# Altium integrated library Altium_SMST (rev19b).IntLib: 106 symbols (part 1 of 2)
Pins are listed as number, name and electrical type; pins without a type are passive.

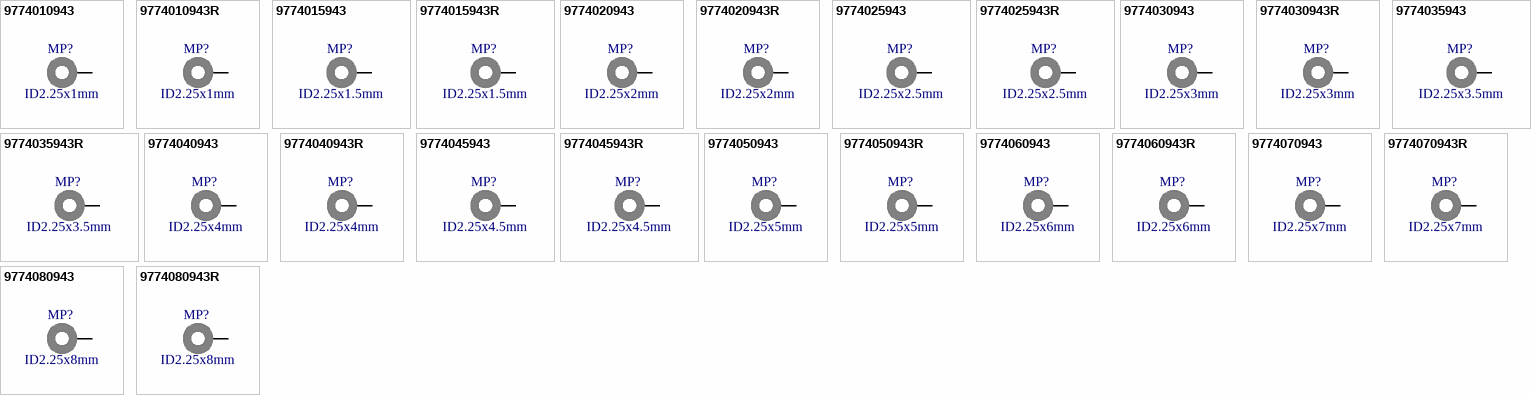
[diagram p0: symbols 9774010943 to 9774080943R]

## 9774010943
designator MP?, comment ID2.25x1mm
WA-SMST SMT Steel Spacer non stop, OD4.35mm, ID2.25x1mm; Part Number: 9774010943; Inner Diameter: 2.25mm; Outer Diameter: 4.35mm; Surface: Tin; ComponentLink1Description: Manufacturer; ComponentLink1URL: http://www.we-online.de; ComponentLink2Description: Datasheet; ComponentLink2URL: https://katalog.we-online.com/em/datasheet/9774010943.pdf; Operating Temperature: -55 to +150degC; Published Date: September 2019; Material: Steel; Length: 1mm; Packaging: Bulk; Publisher: Wurth Elektronik; Mounting Technology: SMT
footprint 9774010943
pins: 1

## 9774010943R
designator MP?, comment ID2.25x1mm
WA-SMST SMT Steel Spacer non stop, OD4.35mm, ID2.25x1mm; Part Number: 9774010943R; Inner Diameter: 2.25mm; Outer Diameter: 4.35mm; Surface: Tin; ComponentLink1Description: Manufacturer; ComponentLink1URL: http://www.we-online.de; ComponentLink2Description: Datasheet; ComponentLink2URL: https://katalog.we-online.com/em/datasheet/9774010943R.pdf; Operating Temperature: -55 to +150degC; Published Date: September 2019; Material: Steel; Length: 1mm; Packaging: Tape and Reel; Publisher: Wurth Elektronik; Mounting Technology: SMT
footprint 9774010943
pins: 1

## 9774015943
designator MP?, comment ID2.25x1.5mm
WA-SMST SMT Steel Spacer non stop, OD4.35mm, ID2.25x1.5mm; Part Number: 9774015943; Inner Diameter: 2.25mm; Outer Diameter: 4.35mm; Surface: Tin; ComponentLink1Description: Manufacturer; ComponentLink1URL: http://www.we-online.de; ComponentLink2Description: Datasheet; ComponentLink2URL: https://katalog.we-online.com/em/datasheet/9774015943.pdf; Operating Temperature: -55 to +150degC; Published Date: September 2019; Material: Steel; Length: 1.5mm; Packaging: Bulk; Publisher: Wurth Elektronik; Mounting Technology: SMT
footprint 9774015943
pins: 1

## 9774015943R
designator MP?, comment ID2.25x1.5mm
WA-SMST SMT Steel Spacer non stop, OD4.35mm, ID2.25x1.5mm; Part Number: 9774015943R; Inner Diameter: 2.25mm; Outer Diameter: 4.35mm; Surface: Tin; ComponentLink1Description: Manufacturer; ComponentLink1URL: http://www.we-online.de; ComponentLink2Description: Datasheet; ComponentLink2URL: https://katalog.we-online.com/em/datasheet/9774015943R.pdf; Operating Temperature: -55 to +150degC; Published Date: September 2019; Material: Steel; Length: 1.5mm; Packaging: Tape and Reel; Publisher: Wurth Elektronik; Mounting Technology: SMT
footprint 9774015943
pins: 1

## 9774020943
designator MP?, comment ID2.25x2mm
WA-SMST SMT Steel Spacer non stop, OD4.35mm, ID2.25x2mm; Part Number: 9774020943; Inner Diameter: 2.25mm; Outer Diameter: 4.35mm; Surface: Tin; ComponentLink1Description: Manufacturer; ComponentLink1URL: http://www.we-online.de; ComponentLink2Description: Datasheet; ComponentLink2URL: https://katalog.we-online.com/em/datasheet/9774020943.pdf; Operating Temperature: -55 to +150degC; Published Date: September 2019; Material: Steel; Length: 2mm; Packaging: Bulk; Publisher: Wurth Elektronik; Mounting Technology: SMT
footprint 9774020943
pins: 1

## 9774020943R
designator MP?, comment ID2.25x2mm
WA-SMST SMT Steel Spacer non stop, OD4.35mm, ID2.25x2mm; Part Number: 9774020943R; Inner Diameter: 2.25mm; Outer Diameter: 4.35mm; Surface: Tin; ComponentLink1Description: Manufacturer; ComponentLink1URL: http://www.we-online.de; ComponentLink2Description: Datasheet; ComponentLink2URL: https://katalog.we-online.com/em/datasheet/9774020943R.pdf; Operating Temperature: -55 to +150degC; Published Date: September 2019; Material: Steel; Length: 2mm; Packaging: Tape and Reel; Publisher: Wurth Elektronik; Mounting Technology: SMT
footprint 9774020943
pins: 1

## 9774025943
designator MP?, comment ID2.25x2.5mm
WA-SMST SMT Steel Spacer non stop, OD4.35mm, ID2.25x2.5mm; Part Number: 9774025943; Inner Diameter: 2.25mm; Outer Diameter: 4.35mm; Surface: Tin; ComponentLink1Description: Manufacturer; ComponentLink1URL: http://www.we-online.de; ComponentLink2Description: Datasheet; ComponentLink2URL: https://katalog.we-online.com/em/datasheet/9774025943.pdf; Operating Temperature: -55 to +150degC; Published Date: September 2019; Material: Steel; Length: 2.5mm; Packaging: Bulk; Publisher: Wurth Elektronik; Mounting Technology: SMT
footprint 9774025943
pins: 1

## 9774025943R
designator MP?, comment ID2.25x2.5mm
WA-SMST SMT Steel Spacer non stop, OD4.35mm, ID2.25x2.5mm; Part Number: 9774025943R; Inner Diameter: 2.25mm; Outer Diameter: 4.35mm; Surface: Tin; ComponentLink1Description: Manufacturer; ComponentLink1URL: http://www.we-online.de; ComponentLink2Description: Datasheet; ComponentLink2URL: https://katalog.we-online.com/em/datasheet/9774025943R.pdf; Operating Temperature: -55 to +150degC; Published Date: September 2019; Material: Steel; Length: 2.5mm; Packaging: Tape and Reel; Publisher: Wurth Elektronik; Mounting Technology: SMT
footprint 9774025943
pins: 1

## 9774030943
designator MP?, comment ID2.25x3mm
WA-SMST SMT Steel Spacer non stop, OD4.35mm, ID2.25x3mm; Part Number: 9774030943; Inner Diameter: 2.25mm; Outer Diameter: 4.35mm; Surface: Tin; ComponentLink1Description: Manufacturer; ComponentLink1URL: http://www.we-online.de; ComponentLink2Description: Datasheet; ComponentLink2URL: https://katalog.we-online.com/em/datasheet/9774030943.pdf; Operating Temperature: -55 to +150degC; Published Date: September 2019; Material: Steel; Length: 3mm; Packaging: Bulk; Publisher: Wurth Elektronik; Mounting Technology: SMT
footprint 9774030943
pins: 1

## 9774030943R
designator MP?, comment ID2.25x3mm
WA-SMST SMT Steel Spacer non stop, OD4.35mm, ID2.25x3mm; Part Number: 9774030943R; Inner Diameter: 2.25mm; Outer Diameter: 4.35mm; Surface: Tin; ComponentLink1Description: Manufacturer; ComponentLink1URL: http://www.we-online.de; ComponentLink2Description: Datasheet; ComponentLink2URL: https://katalog.we-online.com/em/datasheet/9774030943R.pdf; Operating Temperature: -55 to +150degC; Published Date: September 2019; Material: Steel; Length: 3mm; Packaging: Tape and Reel; Publisher: Wurth Elektronik; Mounting Technology: SMT
footprint 9774030943
pins: 1

## 9774035943
designator MP?, comment ID2.25x3.5mm
WA-SMST SMT Steel Spacer non stop, OD4.35mm, ID2.25x3.5mm; Part Number: 9774035943; Inner Diameter: 2.25mm; Outer Diameter: 4.35mm; Surface: Tin; ComponentLink1Description: Manufacturer; ComponentLink1URL: http://www.we-online.de; ComponentLink2Description: Datasheet; ComponentLink2URL: https://katalog.we-online.com/em/datasheet/9774035943.pdf; Operating Temperature: -55 to +150degC; Published Date: September 2019; Material: Steel; Length: 3.5mm; Packaging: Bulk; Publisher: Wurth Elektronik; Mounting Technology: SMT
footprint 9774035943
pins: 1

## 9774035943R
designator MP?, comment ID2.25x3.5mm
WA-SMST SMT Steel Spacer non stop, OD4.35mm, ID2.25x3.5mm; Part Number: 9774035943R; Inner Diameter: 2.25mm; Outer Diameter: 4.35mm; Surface: Tin; ComponentLink1Description: Manufacturer; ComponentLink1URL: http://www.we-online.de; ComponentLink2Description: Datasheet; ComponentLink2URL: https://katalog.we-online.com/em/datasheet/9774035943R.pdf; Operating Temperature: -55 to +150degC; Published Date: September 2019; Material: Steel; Length: 3.5mm; Packaging: Tape and Reel; Publisher: Wurth Elektronik; Mounting Technology: SMT
footprint 9774035943
pins: 1

## 9774040943
designator MP?, comment ID2.25x4mm
WA-SMST SMT Steel Spacer non stop, OD4.35mm, ID2.25x4mm; Part Number: 9774040943; Inner Diameter: 2.25mm; Outer Diameter: 4.35mm; Surface: Tin; ComponentLink1Description: Manufacturer; ComponentLink1URL: http://www.we-online.de; ComponentLink2Description: Datasheet; ComponentLink2URL: https://katalog.we-online.com/em/datasheet/9774040943.pdf; Operating Temperature: -55 to +150degC; Published Date: September 2019; Material: Steel; Length: 4mm; Packaging: Bulk; Publisher: Wurth Elektronik; Mounting Technology: SMT
footprint 9774040943
pins: 1

## 9774040943R
designator MP?, comment ID2.25x4mm
WA-SMST SMT Steel Spacer non stop, OD4.35mm, ID2.25x4mm; Part Number: 9774040943R; Inner Diameter: 2.25mm; Outer Diameter: 4.35mm; Surface: Tin; ComponentLink1Description: Manufacturer; ComponentLink1URL: http://www.we-online.de; ComponentLink2Description: Datasheet; ComponentLink2URL: https://katalog.we-online.com/em/datasheet/9774040943R.pdf; Operating Temperature: -55 to +150degC; Published Date: September 2019; Material: Steel; Length: 4mm; Packaging: Tape and Reel; Publisher: Wurth Elektronik; Mounting Technology: SMT
footprint 9774040943
pins: 1

## 9774045943
designator MP?, comment ID2.25x4.5mm
WA-SMST SMT Steel Spacer non stop, OD4.35mm, ID2.25x4.5mm; Part Number: 9774045943; Inner Diameter: 2.25mm; Outer Diameter: 4.35mm; Surface: Tin; ComponentLink1Description: Manufacturer; ComponentLink1URL: http://www.we-online.de; ComponentLink2Description: Datasheet; ComponentLink2URL: https://katalog.we-online.com/em/datasheet/9774045943.pdf; Operating Temperature: -55 to +150degC; Published Date: September 2019; Material: Steel; Length: 4.5mm; Packaging: Bulk; Publisher: Wurth Elektronik; Mounting Technology: SMT
footprint 9774045943
pins: 1

## 9774045943R
designator MP?, comment ID2.25x4.5mm
WA-SMST SMT Steel Spacer non stop, OD4.35mm, ID2.25x4.5mm; Part Number: 9774045943R; Inner Diameter: 2.25mm; Outer Diameter: 4.35mm; Surface: Tin; ComponentLink1Description: Manufacturer; ComponentLink1URL: http://www.we-online.de; ComponentLink2Description: Datasheet; ComponentLink2URL: https://katalog.we-online.com/em/datasheet/9774045943R.pdf; Operating Temperature: -55 to +150degC; Published Date: September 2019; Material: Steel; Length: 4.5mm; Packaging: Tape and Reel; Publisher: Wurth Elektronik; Mounting Technology: SMT
footprint 9774045943
pins: 1

## 9774050943
designator MP?, comment ID2.25x5mm
WA-SMST SMT Steel Spacer non stop, OD4.35mm, ID2.25x5mm; Part Number: 9774050943; Inner Diameter: 2.25mm; Outer Diameter: 4.35mm; Surface: Tin; ComponentLink1Description: Manufacturer; ComponentLink1URL: http://www.we-online.de; ComponentLink2Description: Datasheet; ComponentLink2URL: https://katalog.we-online.com/em/datasheet/9774050943.pdf; Operating Temperature: -55 to +150degC; Published Date: September 2019; Material: Steel; Length: 5mm; Packaging: Bulk; Publisher: Wurth Elektronik; Mounting Technology: SMT
footprint 9774050943
pins: 1

## 9774050943R
designator MP?, comment ID2.25x5mm
WA-SMST SMT Steel Spacer non stop, OD4.35mm, ID2.25x5mm; Part Number: 9774050943R; Inner Diameter: 2.25mm; Outer Diameter: 4.35mm; Surface: Tin; ComponentLink1Description: Manufacturer; ComponentLink1URL: http://www.we-online.de; ComponentLink2Description: Datasheet; ComponentLink2URL: https://katalog.we-online.com/em/datasheet/9774050943R.pdf; Operating Temperature: -55 to +150degC; Published Date: September 2019; Material: Steel; Length: 5mm; Packaging: Tape and Reel; Publisher: Wurth Elektronik; Mounting Technology: SMT
footprint 9774050943
pins: 1

## 9774060943
designator MP?, comment ID2.25x6mm
WA-SMST SMT Steel Spacer non stop, OD4.35mm, ID2.25x6mm; Part Number: 9774060943; Inner Diameter: 2.25mm; Outer Diameter: 4.35mm; Surface: Tin; ComponentLink1Description: Manufacturer; ComponentLink1URL: http://www.we-online.de; ComponentLink2Description: Datasheet; ComponentLink2URL: https://katalog.we-online.com/em/datasheet/9774060943.pdf; Operating Temperature: -55 to +150degC; Published Date: September 2019; Material: Steel; Length: 6mm; Packaging: Bulk; Publisher: Wurth Elektronik; Mounting Technology: SMT
footprint 9774060943
pins: 1

## 9774060943R
designator MP?, comment ID2.25x6mm
WA-SMST SMT Steel Spacer non stop, OD4.35mm, ID2.25x6mm; Part Number: 9774060943R; Inner Diameter: 2.25mm; Outer Diameter: 4.35mm; Surface: Tin; ComponentLink1Description: Manufacturer; ComponentLink1URL: http://www.we-online.de; ComponentLink2Description: Datasheet; ComponentLink2URL: https://katalog.we-online.com/em/datasheet/9774060943R.pdf; Operating Temperature: -55 to +150degC; Published Date: September 2019; Material: Steel; Length: 6mm; Packaging: Tape and Reel; Publisher: Wurth Elektronik; Mounting Technology: SMT
footprint 9774060943
pins: 1

## 9774070943
designator MP?, comment ID2.25x7mm
WA-SMST SMT Steel Spacer non stop, OD4.35mm, ID2.25x7mm; Part Number: 9774070943; Inner Diameter: 2.25mm; Outer Diameter: 4.35mm; Surface: Tin; ComponentLink1Description: Manufacturer; ComponentLink1URL: http://www.we-online.de; ComponentLink2Description: Datasheet; ComponentLink2URL: https://katalog.we-online.com/em/datasheet/9774070943.pdf; Operating Temperature: -55 to +150degC; Published Date: September 2019; Material: Steel; Length: 7mm; Packaging: Bulk; Publisher: Wurth Elektronik; Mounting Technology: SMT
footprint 9774070943
pins: 1

## 9774070943R
designator MP?, comment ID2.25x7mm
WA-SMST SMT Steel Spacer non stop, OD4.35mm, ID2.25x7mm; Part Number: 9774070943R; Inner Diameter: 2.25mm; Outer Diameter: 4.35mm; Surface: Tin; ComponentLink1Description: Manufacturer; ComponentLink1URL: http://www.we-online.de; ComponentLink2Description: Datasheet; ComponentLink2URL: https://katalog.we-online.com/em/datasheet/9774070943R.pdf; Operating Temperature: -55 to +150degC; Published Date: September 2019; Material: Steel; Length: 7mm; Packaging: Tape and Reel; Publisher: Wurth Elektronik; Mounting Technology: SMT
footprint 9774070943
pins: 1

## 9774080943
designator MP?, comment ID2.25x8mm
WA-SMST SMT Steel Spacer non stop, OD4.35mm, ID2.25x8mm; Part Number: 9774080943; Inner Diameter: 2.25mm; Outer Diameter: 4.35mm; Surface: Tin; ComponentLink1Description: Manufacturer; ComponentLink1URL: http://www.we-online.de; ComponentLink2Description: Datasheet; ComponentLink2URL: https://katalog.we-online.com/em/datasheet/9774080943.pdf; Operating Temperature: -55 to +150degC; Published Date: September 2019; Material: Steel; Length: 8mm; Packaging: Bulk; Publisher: Wurth Elektronik; Mounting Technology: SMT
footprint 9774080943
pins: 1

## 9774080943R
designator MP?, comment ID2.25x8mm
WA-SMST SMT Steel Spacer non stop, OD4.35mm, ID2.25x8mm; Part Number: 9774080943R; Inner Diameter: 2.25mm; Outer Diameter: 4.35mm; Surface: Tin; ComponentLink1Description: Manufacturer; ComponentLink1URL: http://www.we-online.de; ComponentLink2Description: Datasheet; ComponentLink2URL: https://katalog.we-online.com/em/datasheet/9774080943R.pdf; Operating Temperature: -55 to +150degC; Published Date: September 2019; Material: Steel; Length: 8mm; Packaging: Tape and Reel; Publisher: Wurth Elektronik; Mounting Technology: SMT
footprint 9774080943
pins: 1


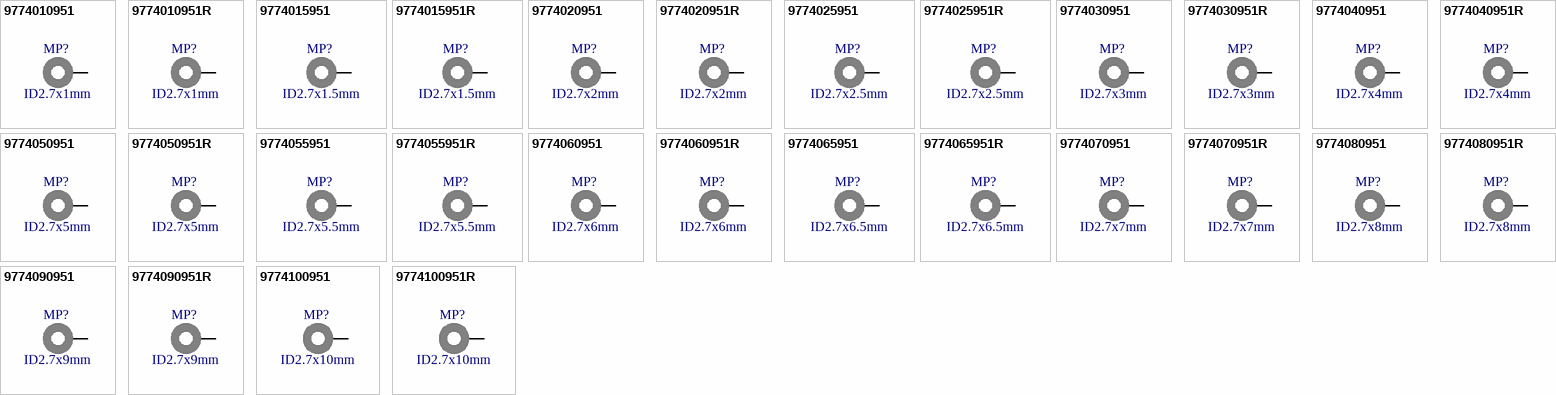
[diagram p1: symbols 9774010951 to 9774100951R]

## 9774010951
designator MP?, comment ID2.7x1mm
WA-SMST SMT Steel Spacer non stop, OD5.1mm, ID2.7x1mm; Part Number: 9774010951; Inner Diameter: 2.7mm; Outer Diameter: 5.1mm; Surface: Tin; ComponentLink1Description: Manufacturer; ComponentLink1URL: http://www.we-online.de; ComponentLink2Description: Datasheet; ComponentLink2URL: https://katalog.we-online.com/em/datasheet/9774010951.pdf; Operating Temperature: -55 to +150degC; Published Date: September 2019; Material: Steel; Length: 1mm; Packaging: Bulk; Publisher: Wurth Elektronik; Mounting Technology: SMT
footprint 9774010951
pins: 1

## 9774010951R
designator MP?, comment ID2.7x1mm
WA-SMST SMT Steel Spacer non stop, OD5.1mm, ID2.7x1mm; Part Number: 9774010951R; Inner Diameter: 2.7mm; Outer Diameter: 5.1mm; Surface: Tin; ComponentLink1Description: Manufacturer; ComponentLink1URL: http://www.we-online.de; ComponentLink2Description: Datasheet; ComponentLink2URL: https://katalog.we-online.com/em/datasheet/9774010951R.pdf; Operating Temperature: -55 to +150degC; Published Date: September 2019; Material: Steel; Length: 1mm; Packaging: Tape and Reel; Publisher: Wurth Elektronik; Mounting Technology: SMT
footprint 9774010951
pins: 1

## 9774015951
designator MP?, comment ID2.7x1.5mm
WA-SMST SMT Steel Spacer non stop, OD5.1mm, ID2.7x1.5mm; Part Number: 9774015951; Inner Diameter: 2.7mm; Outer Diameter: 5.1mm; Surface: Tin; ComponentLink1Description: Manufacturer; ComponentLink1URL: http://www.we-online.de; ComponentLink2Description: Datasheet; ComponentLink2URL: https://katalog.we-online.com/em/datasheet/9774015951.pdf; Operating Temperature: -55 to +150degC; Published Date: September 2019; Material: Steel; Length: 1.5mm; Packaging: Bulk; Publisher: Wurth Elektronik; Mounting Technology: SMT
footprint 9774015951
pins: 1

## 9774015951R
designator MP?, comment ID2.7x1.5mm
WA-SMST SMT Steel Spacer non stop, OD5.1mm, ID2.7x1.5mm; Part Number: 9774015951R; Inner Diameter: 2.7mm; Outer Diameter: 5.1mm; Surface: Tin; ComponentLink1Description: Manufacturer; ComponentLink1URL: http://www.we-online.de; ComponentLink2Description: Datasheet; ComponentLink2URL: https://katalog.we-online.com/em/datasheet/9774015951R.pdf; Operating Temperature: -55 to +150degC; Published Date: September 2019; Material: Steel; Length: 1.5mm; Packaging: Tape and Reel; Publisher: Wurth Elektronik; Mounting Technology: SMT
footprint 9774015951
pins: 1

## 9774020951
designator MP?, comment ID2.7x2mm
WA-SMST SMT Steel Spacer non stop, OD5.1mm, ID2.7x2mm; Part Number: 9774020951; Inner Diameter: 2.7mm; Outer Diameter: 5.1mm; Surface: Tin; ComponentLink1Description: Manufacturer; ComponentLink1URL: http://www.we-online.de; ComponentLink2Description: Datasheet; ComponentLink2URL: https://katalog.we-online.com/em/datasheet/9774020951.pdf; Operating Temperature: -55 to +150degC; Published Date: September 2019; Material: Steel; Length: 2mm; Packaging: Bulk; Publisher: Wurth Elektronik; Mounting Technology: SMT
footprint 9774020951
pins: 1

## 9774020951R
designator MP?, comment ID2.7x2mm
WA-SMST SMT Steel Spacer non stop, OD5.1mm, ID2.7x2mm; Part Number: 9774020951R; Inner Diameter: 2.7mm; Outer Diameter: 5.1mm; Surface: Tin; ComponentLink1Description: Manufacturer; ComponentLink1URL: http://www.we-online.de; ComponentLink2Description: Datasheet; ComponentLink2URL: https://katalog.we-online.com/em/datasheet/9774020951R.pdf; Operating Temperature: -55 to +150degC; Published Date: September 2019; Material: Steel; Length: 2mm; Packaging: Tape and Reel; Publisher: Wurth Elektronik; Mounting Technology: SMT
footprint 9774020951
pins: 1

## 9774025951
designator MP?, comment ID2.7x2.5mm
WA-SMST SMT Steel Spacer non stop, OD5.1mm, ID2.7x2.5mm; Part Number: 9774025951; Inner Diameter: 2.7mm; Outer Diameter: 5.1mm; Surface: Tin; ComponentLink1Description: Manufacturer; ComponentLink1URL: http://www.we-online.de; ComponentLink2Description: Datasheet; ComponentLink2URL: https://katalog.we-online.com/em/datasheet/9774025951.pdf; Operating Temperature: -55 to +150degC; Published Date: September 2019; Material: Steel; Length: 2.5mm; Packaging: Bulk; Publisher: Wurth Elektronik; Mounting Technology: SMT
footprint 9774025951
pins: 1

## 9774025951R
designator MP?, comment ID2.7x2.5mm
WA-SMST SMT Steel Spacer non stop, OD5.1mm, ID2.7x2.5mm; Part Number: 9774025951R; Inner Diameter: 2.7mm; Outer Diameter: 5.1mm; Surface: Tin; ComponentLink1Description: Manufacturer; ComponentLink1URL: http://www.we-online.de; ComponentLink2Description: Datasheet; ComponentLink2URL: https://katalog.we-online.com/em/datasheet/9774025951R.pdf; Operating Temperature: -55 to +150degC; Published Date: September 2019; Material: Steel; Length: 2.5mm; Packaging: Tape and Reel; Publisher: Wurth Elektronik; Mounting Technology: SMT
footprint 9774025951
pins: 1

## 9774030951
designator MP?, comment ID2.7x3mm
WA-SMST SMT Steel Spacer non stop, OD5.1mm, ID2.7x3mm; Part Number: 9774030951; Inner Diameter: 2.7mm; Outer Diameter: 5.1mm; Surface: Tin; ComponentLink1Description: Manufacturer; ComponentLink1URL: http://www.we-online.de; ComponentLink2Description: Datasheet; ComponentLink2URL: https://katalog.we-online.com/em/datasheet/9774030951.pdf; Operating Temperature: -55 to +150degC; Published Date: September 2019; Material: Steel; Length: 3mm; Packaging: Bulk; Publisher: Wurth Elektronik; Mounting Technology: SMT
footprint 9774030951
pins: 1

## 9774030951R
designator MP?, comment ID2.7x3mm
WA-SMST SMT Steel Spacer non stop, OD5.1mm, ID2.7x3mm; Part Number: 9774030951R; Inner Diameter: 2.7mm; Outer Diameter: 5.1mm; Surface: Tin; ComponentLink1Description: Manufacturer; ComponentLink1URL: http://www.we-online.de; ComponentLink2Description: Datasheet; ComponentLink2URL: https://katalog.we-online.com/em/datasheet/9774030951R.pdf; Operating Temperature: -55 to +150degC; Published Date: September 2019; Material: Steel; Length: 3mm; Packaging: Tape and Reel; Publisher: Wurth Elektronik; Mounting Technology: SMT
footprint 9774030951
pins: 1

## 9774040951
designator MP?, comment ID2.7x4mm
WA-SMST SMT Steel Spacer non stop, OD5.1mm, ID2.7x4mm; Part Number: 9774040951; Inner Diameter: 2.7mm; Outer Diameter: 5.1mm; Surface: Tin; ComponentLink1Description: Manufacturer; ComponentLink1URL: http://www.we-online.de; ComponentLink2Description: Datasheet; ComponentLink2URL: https://katalog.we-online.com/em/datasheet/9774040951.pdf; Operating Temperature: -55 to +150degC; Published Date: September 2019; Material: Steel; Length: 4mm; Packaging: Bulk; Publisher: Wurth Elektronik; Mounting Technology: SMT
footprint 9774040951
pins: 1

## 9774040951R
designator MP?, comment ID2.7x4mm
WA-SMST SMT Steel Spacer non stop, OD5.1mm, ID2.7x4mm; Part Number: 9774040951R; Inner Diameter: 2.7mm; Outer Diameter: 5.1mm; Surface: Tin; ComponentLink1Description: Manufacturer; ComponentLink1URL: http://www.we-online.de; ComponentLink2Description: Datasheet; ComponentLink2URL: https://katalog.we-online.com/em/datasheet/9774040951R.pdf; Operating Temperature: -55 to +150degC; Published Date: September 2019; Material: Steel; Length: 4mm; Packaging: Tape and Reel; Publisher: Wurth Elektronik; Mounting Technology: SMT
footprint 9774040951
pins: 1

## 9774050951
designator MP?, comment ID2.7x5mm
WA-SMST SMT Steel Spacer non stop, OD5.1mm, ID2.7x5mm; Part Number: 9774050951; Inner Diameter: 2.7mm; Outer Diameter: 5.1mm; Surface: Tin; ComponentLink1Description: Manufacturer; ComponentLink1URL: http://www.we-online.de; ComponentLink2Description: Datasheet; ComponentLink2URL: https://katalog.we-online.com/em/datasheet/9774050951.pdf; Operating Temperature: -55 to +150degC; Published Date: September 2019; Material: Steel; Length: 5mm; Packaging: Bulk; Publisher: Wurth Elektronik; Mounting Technology: SMT
footprint 9774050951
pins: 1

## 9774050951R
designator MP?, comment ID2.7x5mm
WA-SMST SMT Steel Spacer non stop, OD5.1mm, ID2.7x5mm; Part Number: 9774050951R; Inner Diameter: 2.7mm; Outer Diameter: 5.1mm; Surface: Tin; ComponentLink1Description: Manufacturer; ComponentLink1URL: http://www.we-online.de; ComponentLink2Description: Datasheet; ComponentLink2URL: https://katalog.we-online.com/em/datasheet/9774050951R.pdf; Operating Temperature: -55 to +150degC; Published Date: September 2019; Material: Steel; Length: 5mm; Packaging: Tape and Reel; Publisher: Wurth Elektronik; Mounting Technology: SMT
footprint 9774050951
pins: 1

## 9774055951
designator MP?, comment ID2.7x5.5mm
WA-SMST SMT Steel Spacer non stop, OD5.1mm, ID2.7x5.5mm; Part Number: 9774055951; Inner Diameter: 2.7mm; Outer Diameter: 5.1mm; Surface: Tin; ComponentLink1Description: Manufacturer; ComponentLink1URL: http://www.we-online.de; ComponentLink2Description: Datasheet; ComponentLink2URL: https://katalog.we-online.com/em/datasheet/9774055951.pdf; Operating Temperature: -55 to +150degC; Published Date: September 2019; Material: Steel; Length: 5.5mm; Packaging: Bulk; Publisher: Wurth Elektronik; Mounting Technology: SMT
footprint 9774055951
pins: 1

## 9774055951R
designator MP?, comment ID2.7x5.5mm
WA-SMST SMT Steel Spacer non stop, OD5.1mm, ID2.7x5.5mm; Part Number: 9774055951R; Inner Diameter: 2.7mm; Outer Diameter: 5.1mm; Surface: Tin; ComponentLink1Description: Manufacturer; ComponentLink1URL: http://www.we-online.de; ComponentLink2Description: Datasheet; ComponentLink2URL: https://katalog.we-online.com/em/datasheet/9774055951R.pdf; Operating Temperature: -55 to +150degC; Published Date: September 2019; Material: Steel; Length: 5.5mm; Packaging: Tape and Reel; Publisher: Wurth Elektronik; Mounting Technology: SMT
footprint 9774055951
pins: 1

## 9774060951
designator MP?, comment ID2.7x6mm
WA-SMST SMT Steel Spacer non stop, OD5.1mm, ID2.7x6mm; Part Number: 9774060951; Inner Diameter: 2.7mm; Outer Diameter: 5.1mm; Surface: Tin; ComponentLink1Description: Manufacturer; ComponentLink1URL: http://www.we-online.de; ComponentLink2Description: Datasheet; ComponentLink2URL: https://katalog.we-online.com/em/datasheet/9774060951.pdf; Operating Temperature: -55 to +150degC; Published Date: September 2019; Material: Steel; Length: 6mm; Packaging: Bulk; Publisher: Wurth Elektronik; Mounting Technology: SMT
footprint 9774060951
pins: 1

## 9774060951R
designator MP?, comment ID2.7x6mm
WA-SMST SMT Steel Spacer non stop, OD5.1mm, ID2.7x6mm; Part Number: 9774060951R; Inner Diameter: 2.7mm; Outer Diameter: 5.1mm; Surface: Tin; ComponentLink1Description: Manufacturer; ComponentLink1URL: http://www.we-online.de; ComponentLink2Description: Datasheet; ComponentLink2URL: https://katalog.we-online.com/em/datasheet/9774060951R.pdf; Operating Temperature: -55 to +150degC; Published Date: September 2019; Material: Steel; Length: 6mm; Packaging: Tape and Reel; Publisher: Wurth Elektronik; Mounting Technology: SMT
footprint 9774060951
pins: 1

## 9774065951
designator MP?, comment ID2.7x6.5mm
WA-SMST SMT Steel Spacer non stop, OD5.1mm, ID2.7x6.5mm; Part Number: 9774065951; Inner Diameter: 2.7mm; Outer Diameter: 5.1mm; Surface: Tin; ComponentLink1Description: Manufacturer; ComponentLink1URL: http://www.we-online.de; ComponentLink2Description: Datasheet; ComponentLink2URL: https://katalog.we-online.com/em/datasheet/9774065951.pdf; Operating Temperature: -55 to +150degC; Published Date: September 2019; Material: Steel; Length: 6.5mm; Packaging: Bulk; Publisher: Wurth Elektronik; Mounting Technology: SMT
footprint 9774065951
pins: 1

## 9774065951R
designator MP?, comment ID2.7x6.5mm
WA-SMST SMT Steel Spacer non stop, OD5.1mm, ID2.7x6.5mm; Part Number: 9774065951R; Inner Diameter: 2.7mm; Outer Diameter: 5.1mm; Surface: Tin; ComponentLink1Description: Manufacturer; ComponentLink1URL: http://www.we-online.de; ComponentLink2Description: Datasheet; ComponentLink2URL: https://katalog.we-online.com/em/datasheet/9774065951R.pdf; Operating Temperature: -55 to +150degC; Published Date: September 2019; Material: Steel; Length: 6.5mm; Packaging: Bulk; Publisher: Wurth Elektronik; Mounting Technology: SMT
footprint 9774065951
pins: 1

## 9774070951
designator MP?, comment ID2.7x7mm
WA-SMST SMT Steel Spacer non stop, OD5.1mm, ID2.7x7mm; Part Number: 9774070951; Inner Diameter: 2.7mm; Outer Diameter: 5.1mm; Surface: Tin; ComponentLink1Description: Manufacturer; ComponentLink1URL: http://www.we-online.de; ComponentLink2Description: Datasheet; ComponentLink2URL: https://katalog.we-online.com/em/datasheet/9774070951.pdf; Operating Temperature: -55 to +150degC; Published Date: September 2019; Material: Steel; Length: 7mm; Packaging: Bulk; Publisher: Wurth Elektronik; Mounting Technology: SMT
footprint 9774070951
pins: 1

## 9774070951R
designator MP?, comment ID2.7x7mm
WA-SMST SMT Steel Spacer non stop, OD5.1mm, ID2.7x7mm; Part Number: 9774070951R; Inner Diameter: 2.7mm; Outer Diameter: 5.1mm; Surface: Tin; ComponentLink1Description: Manufacturer; ComponentLink1URL: http://www.we-online.de; ComponentLink2Description: Datasheet; ComponentLink2URL: https://katalog.we-online.com/em/datasheet/9774070951R.pdf; Operating Temperature: -55 to +150degC; Published Date: September 2019; Material: Steel; Length: 7mm; Packaging: Tape and Reel; Publisher: Wurth Elektronik; Mounting Technology: SMT
footprint 9774070951
pins: 1

## 9774080951
designator MP?, comment ID2.7x8mm
WA-SMST SMT Steel Spacer non stop, OD5.1mm, ID2.7x8mm; Part Number: 9774080951; Inner Diameter: 2.7mm; Outer Diameter: 5.1mm; Surface: Tin; ComponentLink1Description: Manufacturer; ComponentLink1URL: http://www.we-online.de; ComponentLink2Description: Datasheet; ComponentLink2URL: https://katalog.we-online.com/em/datasheet/9774080951.pdf; Operating Temperature: -55 to +150degC; Published Date: September 2019; Material: Steel; Length: 8mm; Packaging: Bulk; Publisher: Wurth Elektronik; Mounting Technology: SMT
footprint 9774080951
pins: 1

## 9774080951R
designator MP?, comment ID2.7x8mm
WA-SMST SMT Steel Spacer non stop, OD5.1mm, ID2.7x8mm; Part Number: 9774080951R; Inner Diameter: 2.7mm; Outer Diameter: 5.1mm; Surface: Tin; ComponentLink1Description: Manufacturer; ComponentLink1URL: http://www.we-online.de; ComponentLink2Description: Datasheet; ComponentLink2URL: https://katalog.we-online.com/em/datasheet/9774080951R.pdf; Operating Temperature: -55 to +150degC; Published Date: September 2019; Material: Steel; Length: 8mm; Packaging: Tape and Reel; Publisher: Wurth Elektronik; Mounting Technology: SMT
footprint 9774080951
pins: 1

## 9774090951
designator MP?, comment ID2.7x9mm
WA-SMST SMT Steel Spacer non stop, OD5.1mm, ID2.7x9mm; Part Number: 9774090951; Inner Diameter: 2.7mm; Outer Diameter: 5.1mm; Surface: Tin; ComponentLink1Description: Manufacturer; ComponentLink1URL: http://www.we-online.de; ComponentLink2Description: Datasheet; ComponentLink2URL: https://katalog.we-online.com/em/datasheet/9774090951.pdf; Operating Temperature: -55 to +150degC; Published Date: September 2019; Material: Steel; Length: 9mm; Packaging: Bulk; Publisher: Wurth Elektronik; Mounting Technology: SMT
footprint 9774090951
pins: 1

## 9774090951R
designator MP?, comment ID2.7x9mm
WA-SMST SMT Steel Spacer non stop, OD5.1mm, ID2.7x9mm; Part Number: 9774090951R; Inner Diameter: 2.7mm; Outer Diameter: 5.1mm; Surface: Tin; ComponentLink1Description: Manufacturer; ComponentLink1URL: http://www.we-online.de; ComponentLink2Description: Datasheet; ComponentLink2URL: https://katalog.we-online.com/em/datasheet/9774090951R.pdf; Operating Temperature: -55 to +150degC; Published Date: September 2019; Material: Steel; Length: 9mm; Packaging: Tape and Reel; Publisher: Wurth Elektronik; Mounting Technology: SMT
footprint 9774090951
pins: 1

## 9774100951
designator MP?, comment ID2.7x10mm
WA-SMST SMT Steel Spacer non stop, OD5.1mm, ID2.7x10mm; Part Number: 9774100951; Inner Diameter: 2.7mm; Outer Diameter: 5.1mm; Surface: Tin; ComponentLink1Description: Manufacturer; ComponentLink1URL: http://www.we-online.de; ComponentLink2Description: Datasheet; ComponentLink2URL: https://katalog.we-online.com/em/datasheet/9774100951.pdf; Operating Temperature: -55 to +150degC; Published Date: September 2019; Material: Steel; Length: 10mm; Packaging: Bulk; Publisher: Wurth Elektronik; Mounting Technology: SMT
footprint 9774100951
pins: 1

## 9774100951R
designator MP?, comment ID2.7x10mm
WA-SMST SMT Steel Spacer non stop, OD5.1mm, ID2.7x10mm; Part Number: 9774100951R; Inner Diameter: 2.7mm; Outer Diameter: 5.1mm; Surface: Tin; ComponentLink1Description: Manufacturer; ComponentLink1URL: http://www.we-online.de; ComponentLink2Description: Datasheet; ComponentLink2URL: https://katalog.we-online.com/em/datasheet/9774100951R.pdf; Operating Temperature: -55 to +150degC; Published Date: September 2019; Material: Steel; Length: 10mm; Packaging: Tape and Reel; Publisher: Wurth Elektronik; Mounting Technology: SMT
footprint 9774100951
pins: 1


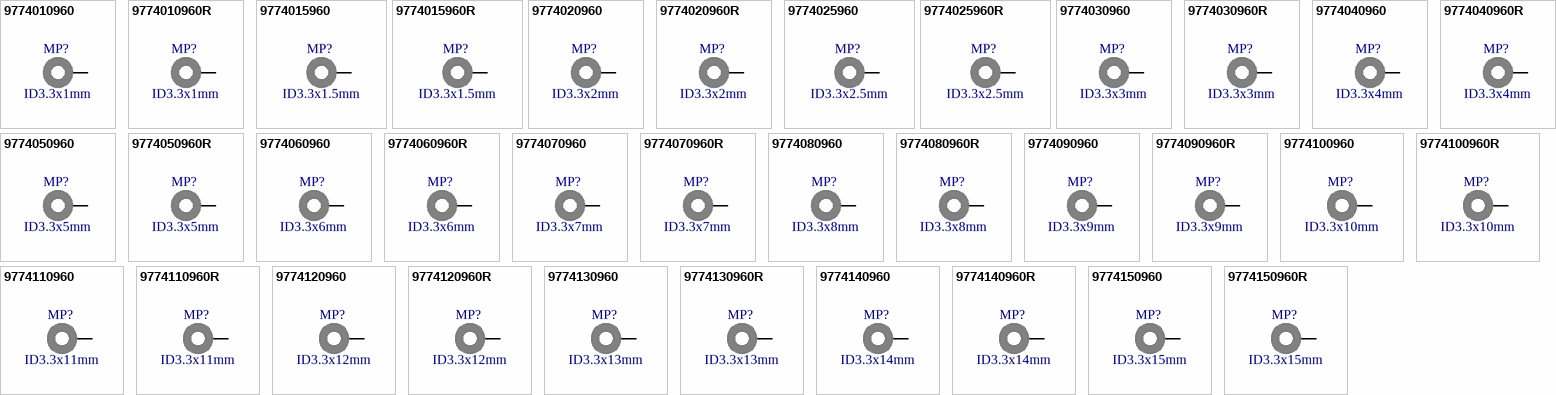
[diagram p2: symbols 9774010960 to 9774150960R]

## 9774010960
designator MP?, comment ID3.3x1mm
WA-SMST SMT Steel Spacer non stop, OD6mm, ID3.3x1mm; Part Number: 9774010960; Inner Diameter: 3.3mm; Outer Diameter: 6mm; Surface: Tin; ComponentLink1Description: Manufacturer; ComponentLink1URL: http://www.we-online.de; ComponentLink2Description: Datasheet; ComponentLink2URL: https://katalog.we-online.com/em/datasheet/9774010960.pdf; Operating Temperature: -55 to +150degC; Published Date: September 2019; Material: Steel; Length: 1mm; Packaging: Bulk; Publisher: Wurth Elektronik; Mounting Technology: SMT
footprint 9774010960
pins: 1

## 9774010960R
designator MP?, comment ID3.3x1mm
WA-SMST SMT Steel Spacer non stop, OD6mm, ID3.3x1mm; Part Number: 9774010960R; Inner Diameter: 3.3mm; Outer Diameter: 6mm; Surface: Tin; ComponentLink1Description: Manufacturer; ComponentLink1URL: http://www.we-online.de; ComponentLink2Description: Datasheet; ComponentLink2URL: https://katalog.we-online.com/em/datasheet/9774010960R.pdf; Operating Temperature: -55 to +150degC; Published Date: September 2019; Material: Steel; Length: 1mm; Packaging: Tape and Reel; Publisher: Wurth Elektronik; Mounting Technology: SMT
footprint 9774010960
pins: 1

## 9774015960
designator MP?, comment ID3.3x1.5mm
WA-SMST SMT Steel Spacer non stop, OD6mm, ID3.3x1.5mm; Part Number: 9774015960; Inner Diameter: 3.3mm; Outer Diameter: 6mm; Surface: Tin; ComponentLink1Description: Manufacturer; ComponentLink1URL: http://www.we-online.de; ComponentLink2Description: Datasheet; ComponentLink2URL: https://katalog.we-online.com/em/datasheet/9774015960.pdf; Operating Temperature: -55 to +150degC; Published Date: September 2019; Material: Steel; Length: 1.5mm; Packaging: Bulk; Publisher: Wurth Elektronik; Mounting Technology: SMT
footprint 9774015960
pins: 1

## 9774015960R
designator MP?, comment ID3.3x1.5mm
WA-SMST SMT Steel Spacer non stop, OD6mm, ID3.3x1.5mm; Part Number: 9774015960R; Inner Diameter: 3.3mm; Outer Diameter: 6mm; Surface: Tin; ComponentLink1Description: Manufacturer; ComponentLink1URL: http://www.we-online.de; ComponentLink2Description: Datasheet; ComponentLink2URL: https://katalog.we-online.com/em/datasheet/9774015960R.pdf; Operating Temperature: -55 to +150degC; Published Date: September 2019; Material: Steel; Length: 1.5mm; Packaging: Tape and Reel; Publisher: Wurth Elektronik; Mounting Technology: SMT
footprint 9774015960
pins: 1

## 9774020960
designator MP?, comment ID3.3x2mm
WA-SMST SMT Steel Spacer non stop, OD6mm, ID3.3x2mm; Part Number: 9774020960; Inner Diameter: 3.3mm; Outer Diameter: 6mm; Surface: Tin; ComponentLink1Description: Manufacturer; ComponentLink1URL: http://www.we-online.de; ComponentLink2Description: Datasheet; ComponentLink2URL: https://katalog.we-online.com/em/datasheet/9774020960.pdf; Operating Temperature: -55 to +150degC; Published Date: September 2019; Material: Steel; Length: 2mm; Packaging: Bulk; Publisher: Wurth Elektronik; Mounting Technology: SMT
footprint 9774020960
pins: 1

## 9774020960R
designator MP?, comment ID3.3x2mm
WA-SMST SMT Steel Spacer non stop, OD6mm, ID3.3x2mm; Part Number: 9774020960R; Inner Diameter: 3.3mm; Outer Diameter: 6mm; Surface: Tin; ComponentLink1Description: Manufacturer; ComponentLink1URL: http://www.we-online.de; ComponentLink2Description: Datasheet; ComponentLink2URL: https://katalog.we-online.com/em/datasheet/9774020960R.pdf; Operating Temperature: -55 to +150degC; Published Date: September 2019; Material: Steel; Length: 2mm; Packaging: Tape and Reel; Publisher: Wurth Elektronik; Mounting Technology: SMT
footprint 9774020960
pins: 1

## 9774025960
designator MP?, comment ID3.3x2.5mm
WA-SMST SMT Steel Spacer non stop, OD6mm, ID3.3x2.5mm; Part Number: 9774025960; Inner Diameter: 3.3mm; Outer Diameter: 6mm; Surface: Tin; ComponentLink1Description: Manufacturer; ComponentLink1URL: http://www.we-online.de; ComponentLink2Description: Datasheet; ComponentLink2URL: https://katalog.we-online.com/em/datasheet/9774025960.pdf; Operating Temperature: -55 to +150degC; Published Date: September 2019; Material: Steel; Length: 2.5mm; Packaging: Bulk; Publisher: Wurth Elektronik; Mounting Technology: SMT
footprint 9774025960
pins: 1

## 9774025960R
designator MP?, comment ID3.3x2.5mm
WA-SMST SMT Steel Spacer non stop, OD6mm, ID3.3x2.5mm; Part Number: 9774025960R; Inner Diameter: 3.3mm; Outer Diameter: 6mm; Surface: Tin; ComponentLink1Description: Manufacturer; ComponentLink1URL: http://www.we-online.de; ComponentLink2Description: Datasheet; ComponentLink2URL: https://katalog.we-online.com/em/datasheet/9774025960R.pdf; Operating Temperature: -55 to +150degC; Published Date: September 2019; Material: Steel; Length: 2.5mm; Packaging: Tape and Reel; Publisher: Wurth Elektronik; Mounting Technology: SMT
footprint 9774025960
pins: 1

## 9774030960
designator MP?, comment ID3.3x3mm
WA-SMST SMT Steel Spacer non stop, OD6mm, ID3.3x3mm; Part Number: 9774030960; Inner Diameter: 3.3mm; Outer Diameter: 6mm; Surface: Tin; ComponentLink1Description: Manufacturer; ComponentLink1URL: http://www.we-online.de; ComponentLink2Description: Datasheet; ComponentLink2URL: https://katalog.we-online.com/em/datasheet/9774030960.pdf; Operating Temperature: -55 to +150degC; Published Date: September 2019; Material: Steel; Length: 3mm; Packaging: Bulk; Publisher: Wurth Elektronik; Mounting Technology: SMT
footprint 9774030960
pins: 1

## 9774030960R
designator MP?, comment ID3.3x3mm
WA-SMST SMT Steel Spacer non stop, OD6mm, ID3.3x3mm; Part Number: 9774030960R; Inner Diameter: 3.3mm; Outer Diameter: 6mm; Surface: Tin; ComponentLink1Description: Manufacturer; ComponentLink1URL: http://www.we-online.de; ComponentLink2Description: Datasheet; ComponentLink2URL: https://katalog.we-online.com/em/datasheet/9774030960R.pdf; Operating Temperature: -55 to +150degC; Published Date: September 2019; Material: Steel; Length: 3mm; Packaging: Tape and Reel; Publisher: Wurth Elektronik; Mounting Technology: SMT
footprint 9774030960
pins: 1

## 9774040960
designator MP?, comment ID3.3x4mm
WA-SMST SMT Steel Spacer non stop, OD6mm, ID3.3x4mm; Part Number: 9774040960; Inner Diameter: 3.3mm; Outer Diameter: 6mm; Surface: Tin; ComponentLink1Description: Manufacturer; ComponentLink1URL: http://www.we-online.de; ComponentLink2Description: Datasheet; ComponentLink2URL: https://katalog.we-online.com/em/datasheet/9774040960.pdf; Operating Temperature: -55 to +150degC; Published Date: September 2019; Material: Steel; Length: 4mm; Packaging: Bulk; Publisher: Wurth Elektronik; Mounting Technology: SMT
footprint 9774040960
pins: 1

## 9774040960R
designator MP?, comment ID3.3x4mm
WA-SMST SMT Steel Spacer non stop, OD6mm, ID3.3x4mm; Part Number: 9774040960R; Inner Diameter: 3.3mm; Outer Diameter: 6mm; Surface: Tin; ComponentLink1Description: Manufacturer; ComponentLink1URL: http://www.we-online.de; ComponentLink2Description: Datasheet; ComponentLink2URL: https://katalog.we-online.com/em/datasheet/9774040960R.pdf; Operating Temperature: -55 to +150degC; Published Date: September 2019; Material: Steel; Length: 4mm; Packaging: Tape and Reel; Publisher: Wurth Elektronik; Mounting Technology: SMT
footprint 9774040960
pins: 1

## 9774050960
designator MP?, comment ID3.3x5mm
WA-SMST SMT Steel Spacer non stop, OD6mm, ID3.3x5mm; Part Number: 9774050960; Inner Diameter: 3.3mm; Outer Diameter: 6mm; Surface: Tin; ComponentLink1Description: Manufacturer; ComponentLink1URL: http://www.we-online.de; ComponentLink2Description: Datasheet; ComponentLink2URL: https://katalog.we-online.com/em/datasheet/9774050960.pdf; Operating Temperature: -55 to +150degC; Published Date: September 2019; Material: Steel; Length: 5mm; Packaging: Bulk; Publisher: Wurth Elektronik; Mounting Technology: SMT
footprint 9774050960
pins: 1

## 9774050960R
designator MP?, comment ID3.3x5mm
WA-SMST SMT Steel Spacer non stop, OD6mm, ID3.3x5mm; Part Number: 9774050960R; Inner Diameter: 3.3mm; Outer Diameter: 6mm; Surface: Tin; ComponentLink1Description: Manufacturer; ComponentLink1URL: http://www.we-online.de; ComponentLink2Description: Datasheet; ComponentLink2URL: https://katalog.we-online.com/em/datasheet/9774050960R.pdf; Operating Temperature: -55 to +150degC; Published Date: September 2019; Material: Steel; Length: 5mm; Packaging: Tape and Reel; Publisher: Wurth Elektronik; Mounting Technology: SMT
footprint 9774050960
pins: 1

## 9774060960
designator MP?, comment ID3.3x6mm
WA-SMST SMT Steel Spacer non stop, OD6mm, ID3.3x6mm; Part Number: 9774060960; Inner Diameter: 3.3mm; Outer Diameter: 6mm; Surface: Tin; ComponentLink1Description: Manufacturer; ComponentLink1URL: http://www.we-online.de; ComponentLink2Description: Datasheet; ComponentLink2URL: https://katalog.we-online.com/em/datasheet/9774060960.pdf; Operating Temperature: -55 to +150degC; Published Date: September 2019; Material: Steel; Length: 6mm; Packaging: Bulk; Publisher: Wurth Elektronik; Mounting Technology: SMT
footprint 9774060960
pins: 1

## 9774060960R
designator MP?, comment ID3.3x6mm
WA-SMST SMT Steel Spacer non stop, OD6mm, ID3.3x6mm; Part Number: 9774060960R; Inner Diameter: 3.3mm; Outer Diameter: 6mm; Surface: Tin; ComponentLink1Description: Manufacturer; ComponentLink1URL: http://www.we-online.de; ComponentLink2Description: Datasheet; ComponentLink2URL: https://katalog.we-online.com/em/datasheet/9774060960R.pdf; Operating Temperature: -55 to +150degC; Published Date: September 2019; Material: Steel; Length: 6mm; Packaging: Tape and Reel; Publisher: Wurth Elektronik; Mounting Technology: SMT
footprint 9774060960
pins: 1

## 9774070960
designator MP?, comment ID3.3x7mm
WA-SMST SMT Steel Spacer non stop, OD6mm, ID3.3x7mm; Part Number: 9774070960; Inner Diameter: 3.3mm; Outer Diameter: 6mm; Surface: Tin; ComponentLink1Description: Manufacturer; ComponentLink1URL: http://www.we-online.de; ComponentLink2Description: Datasheet; ComponentLink2URL: https://katalog.we-online.com/em/datasheet/9774070960.pdf; Operating Temperature: -55 to +150degC; Published Date: September 2019; Material: Steel; Length: 7mm; Packaging: Bulk; Publisher: Wurth Elektronik; Mounting Technology: SMT
footprint 9774070960
pins: 1

## 9774070960R
designator MP?, comment ID3.3x7mm
WA-SMST SMT Steel Spacer non stop, OD6mm, ID3.3x7mm; Part Number: 9774070960R; Inner Diameter: 3.3mm; Outer Diameter: 6mm; Surface: Tin; ComponentLink1Description: Manufacturer; ComponentLink1URL: http://www.we-online.de; ComponentLink2Description: Datasheet; ComponentLink2URL: https://katalog.we-online.com/em/datasheet/9774070960R.pdf; Operating Temperature: -55 to +150degC; Published Date: September 2019; Material: Steel; Length: 7mm; Packaging: Tape and Reel; Publisher: Wurth Elektronik; Mounting Technology: SMT
footprint 9774070960
pins: 1

## 9774080960
designator MP?, comment ID3.3x8mm
WA-SMST SMT Steel Spacer non stop, OD6mm, ID3.3x8mm; Part Number: 9774080960; Inner Diameter: 3.3mm; Outer Diameter: 6mm; Surface: Tin; ComponentLink1Description: Manufacturer; ComponentLink1URL: http://www.we-online.de; ComponentLink2Description: Datasheet; ComponentLink2URL: https://katalog.we-online.com/em/datasheet/9774080960.pdf; Operating Temperature: -55 to +150degC; Published Date: September 2019; Material: Steel; Length: 8mm; Packaging: Bulk; Publisher: Wurth Elektronik; Mounting Technology: SMT
footprint 9774080960
pins: 1

## 9774080960R
designator MP?, comment ID3.3x8mm
WA-SMST SMT Steel Spacer non stop, OD6mm, ID3.3x8mm; Part Number: 9774080960R; Inner Diameter: 3.3mm; Outer Diameter: 6mm; Surface: Tin; ComponentLink1Description: Manufacturer; ComponentLink1URL: http://www.we-online.de; ComponentLink2Description: Datasheet; ComponentLink2URL: https://katalog.we-online.com/em/datasheet/9774080960R.pdf; Operating Temperature: -55 to +150degC; Published Date: September 2019; Material: Steel; Length: 8mm; Packaging: Tape and Reel; Publisher: Wurth Elektronik; Mounting Technology: SMT
footprint 9774080960
pins: 1

## 9774090960
designator MP?, comment ID3.3x9mm
WA-SMST SMT Steel Spacer non stop, OD6mm, ID3.3x9mm; Part Number: 9774090960; Inner Diameter: 3.3mm; Outer Diameter: 6mm; Surface: Tin; ComponentLink1Description: Manufacturer; ComponentLink1URL: http://www.we-online.de; ComponentLink2Description: Datasheet; ComponentLink2URL: https://katalog.we-online.com/em/datasheet/9774090960.pdf; Operating Temperature: -55 to +150degC; Published Date: September 2019; Material: Steel; Length: 9mm; Packaging: Bulk; Publisher: Wurth Elektronik; Mounting Technology: SMT
footprint 9774090960
pins: 1

## 9774090960R
designator MP?, comment ID3.3x9mm
WA-SMST SMT Steel Spacer non stop, OD6mm, ID3.3x9mm; Part Number: 9774090960R; Inner Diameter: 3.3mm; Outer Diameter: 6mm; Surface: Tin; ComponentLink1Description: Manufacturer; ComponentLink1URL: http://www.we-online.de; ComponentLink2Description: Datasheet; ComponentLink2URL: https://katalog.we-online.com/em/datasheet/9774090960R.pdf; Operating Temperature: -55 to +150degC; Published Date: September 2019; Material: Steel; Length: 9mm; Packaging: Tape and Reel; Publisher: Wurth Elektronik; Mounting Technology: SMT
footprint 9774090960
pins: 1

## 9774100960
designator MP?, comment ID3.3x10mm
WA-SMST SMT Steel Spacer non stop, OD6mm, ID3.3x10mm; Part Number: 9774100960; Inner Diameter: 3.3mm; Outer Diameter: 6mm; Surface: Tin; ComponentLink1Description: Manufacturer; ComponentLink1URL: http://www.we-online.de; ComponentLink2Description: Datasheet; ComponentLink2URL: https://katalog.we-online.com/em/datasheet/9774100960.pdf; Operating Temperature: -55 to +150degC; Published Date: September 2019; Material: Steel; Length: 10mm; Packaging: Bulk; Publisher: Wurth Elektronik; Mounting Technology: SMT
footprint 9774100960
pins: 1

## 9774100960R
designator MP?, comment ID3.3x10mm
WA-SMST SMT Steel Spacer non stop, OD6mm, ID3.3x10mm; Part Number: 9774100960R; Inner Diameter: 3.3mm; Outer Diameter: 6mm; Surface: Tin; ComponentLink1Description: Manufacturer; ComponentLink1URL: http://www.we-online.de; ComponentLink2Description: Datasheet; ComponentLink2URL: https://katalog.we-online.com/em/datasheet/9774100960R.pdf; Operating Temperature: -55 to +150degC; Published Date: September 2019; Material: Steel; Length: 10mm; Packaging: Tape and Reel; Publisher: Wurth Elektronik; Mounting Technology: SMT
footprint 9774100960
pins: 1

## 9774110960
designator MP?, comment ID3.3x11mm
WA-SMST SMT Steel Spacer non stop, OD6mm, ID3.3x11mm; Part Number: 9774110960; Inner Diameter: 3.3mm; Outer Diameter: 6mm; Surface: Tin; ComponentLink1Description: Manufacturer; ComponentLink1URL: http://www.we-online.de; ComponentLink2Description: Datasheet; ComponentLink2URL: https://katalog.we-online.com/em/datasheet/9774110960.pdf; Operating Temperature: -55 to +150degC; Published Date: September 2019; Material: Steel; Length: 11mm; Packaging: Bulk; Publisher: Wurth Elektronik; Mounting Technology: SMT
footprint 9774110960
pins: 1

## 9774110960R
designator MP?, comment ID3.3x11mm
WA-SMST SMT Steel Spacer non stop, OD6mm, ID3.3x11mm; Part Number: 9774110960R; Inner Diameter: 3.3mm; Outer Diameter: 6mm; Surface: Tin; ComponentLink1Description: Manufacturer; ComponentLink1URL: http://www.we-online.de; ComponentLink2Description: Datasheet; ComponentLink2URL: https://katalog.we-online.com/em/datasheet/9774110960R.pdf; Operating Temperature: -55 to +150degC; Published Date: September 2019; Material: Steel; Length: 11mm; Packaging: Tape and Reel; Publisher: Wurth Elektronik; Mounting Technology: SMT
footprint 9774110960
pins: 1

## 9774120960
designator MP?, comment ID3.3x12mm
WA-SMST SMT Steel Spacer non stop, OD6mm, ID3.3x12mm; Part Number: 9774120960; Inner Diameter: 3.3mm; Outer Diameter: 6mm; Surface: Tin; ComponentLink1Description: Manufacturer; ComponentLink1URL: http://www.we-online.de; ComponentLink2Description: Datasheet; ComponentLink2URL: https://katalog.we-online.com/em/datasheet/9774120960.pdf; Operating Temperature: -55 to +150degC; Published Date: September 2019; Material: Steel; Length: 12mm; Packaging: Bulk; Publisher: Wurth Elektronik; Mounting Technology: SMT
footprint 9774120960
pins: 1

## 9774120960R
designator MP?, comment ID3.3x12mm
WA-SMST SMT Steel Spacer non stop, OD6mm, ID3.3x12mm; Part Number: 9774120960R; Inner Diameter: 3.3mm; Outer Diameter: 6mm; Surface: Tin; ComponentLink1Description: Manufacturer; ComponentLink1URL: http://www.we-online.de; ComponentLink2Description: Datasheet; ComponentLink2URL: https://katalog.we-online.com/em/datasheet/9774120960R.pdf; Operating Temperature: -55 to +150degC; Published Date: September 2019; Material: Steel; Length: 12mm; Packaging: Tape and Reel; Publisher: Wurth Elektronik; Mounting Technology: SMT
footprint 9774120960
pins: 1

## 9774130960
designator MP?, comment ID3.3x13mm
WA-SMST SMT Steel Spacer non stop, OD6mm, ID3.3x13mm; Part Number: 9774130960; Inner Diameter: 3.3mm; Outer Diameter: 6mm; Surface: Tin; ComponentLink1Description: Manufacturer; ComponentLink1URL: http://www.we-online.de; ComponentLink2Description: Datasheet; ComponentLink2URL: https://katalog.we-online.com/em/datasheet/9774130960.pdf; Operating Temperature: -55 to +150degC; Published Date: September 2019; Material: Steel; Length: 13mm; Packaging: Bulk; Publisher: Wurth Elektronik; Mounting Technology: SMT
footprint 9774130960
pins: 1

## 9774130960R
designator MP?, comment ID3.3x13mm
WA-SMST SMT Steel Spacer non stop, OD6mm, ID3.3x13mm; Part Number: 9774130960R; Inner Diameter: 3.3mm; Outer Diameter: 6mm; Surface: Tin; ComponentLink1Description: Manufacturer; ComponentLink1URL: http://www.we-online.de; ComponentLink2Description: Datasheet; ComponentLink2URL: https://katalog.we-online.com/em/datasheet/9774130960R.pdf; Operating Temperature: -55 to +150degC; Published Date: September 2019; Material: Steel; Length: 13mm; Packaging: Tape and Reel; Publisher: Wurth Elektronik; Mounting Technology: SMT
footprint 9774130960
pins: 1